# Altium integrated library Analog Devices Data Converters Analog-to-Digital Converters.IntLib: 2400 symbols (part 192 of 338)
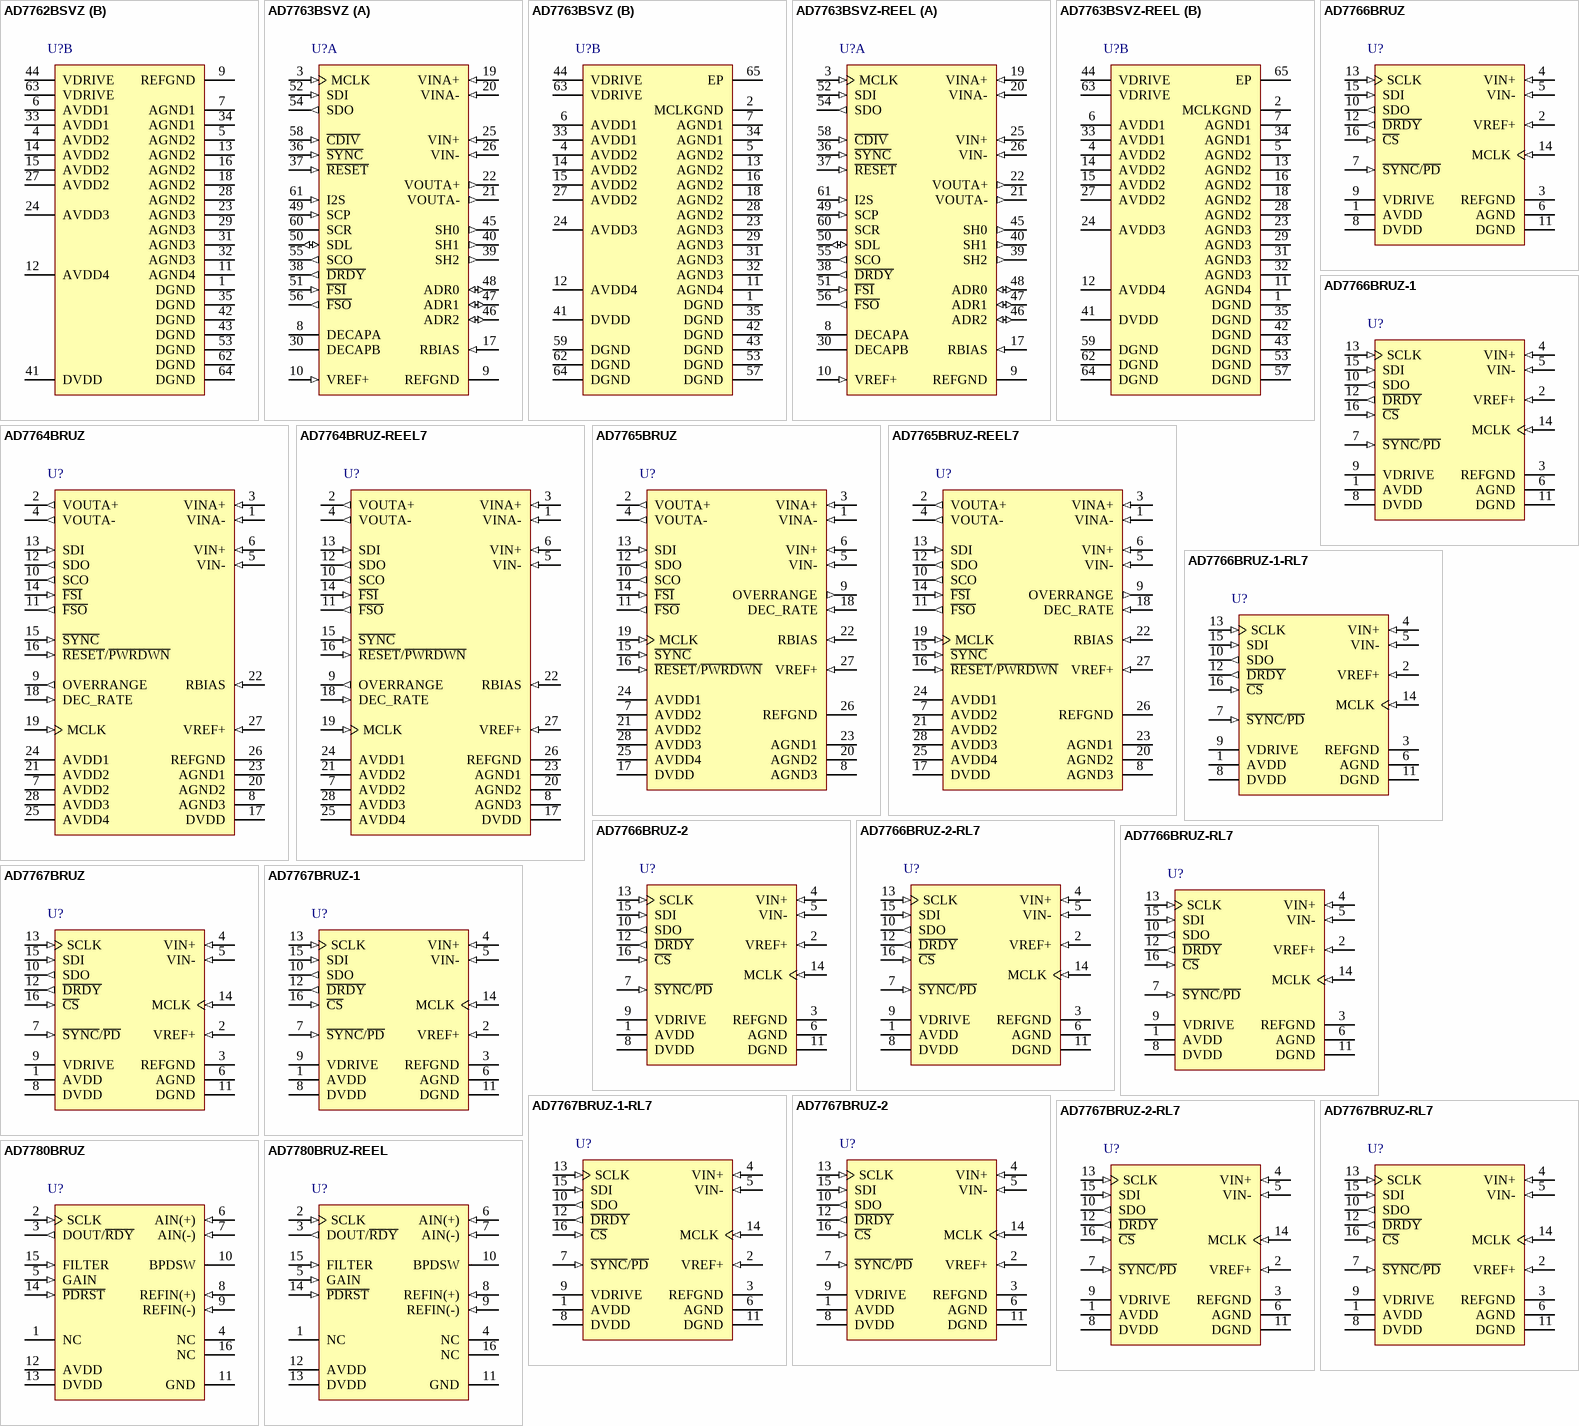
[diagram p361: symbols AD7762BSVZ to AD7780BRUZ-REEL]

## AD7763BSVZ
designator U?
Single 24-Bit Sigma-Delta Analog-to-Digital Converter with I2S, Serial Interface and On-Chip Buffers, 625KSPS, -40 to +85 degC, SV-64-2, Pb-Free, Tray; Part Number: AD7763; Manufacturer: Analog Devices; Resolution (Bits): 24; Channels: 1; Throughput Rate (SPS): 625K; DatasheetVersion: Rev.A; PackageVersion: 2004; PackageReference: SV-64-2; PackageDescription: 64-Lead Thin Quad Flat Package, Exposed Pad [TQFP_EP]; Interface: I2S, Ser; RoHS: Y; Packing: Tray; Mounting Technology: Surface Mount; Code_JEDEC: MS-026-ACD-HD; ComponentLink1Description: Manufacturer URL; ComponentLink1URL: http://www.analog.com/en/index.html; ComponentLink2Description: Datasheet; ComponentLink2URL: http://www.analog.com/static/imported-files/data_sheets/AD7763.pdf; ComponentLink3Description: Package Specification; ComponentLink3URL: http://www.analog.com/static/imported-files/packages/PKG_PDF/TQFP_ED(SV)/SV_64_2.pdf; ComponentLink4Description: Product URL; ComponentLink4URL: http://www.analog.com/en/analog-to-digital-converters/ad-converters/ad7763/products/product.html
footprint SV-64-2_N (Thin QFP, 64-Leads, Body 10x10mm, Pitch 0.5mm, Thermal Pad 6.0x6.0mm, IPC Medium Density)
footprint SV-64-2_L (Thin QFP, 64-Leads, Body 10x10mm, Pitch 0.5mm, Thermal Pad 6.0x6.0mm, IPC High Density)
footprint SV-64-2_M (Thin QFP, 64-Leads, Body 10x10mm, Pitch 0.5mm, Thermal Pad 6.0x6.0mm, IPC Low Density)
part A pins: 3 MCLK (in) "Master Clock Input. A low jitter digital clock must be applied to this pin. The output data rate depends on the frequency of this clock. See the Clocking the AD7763 section.", 8 DECAPA "Decoupling Pin. A 100 nF capacitor must be inserted between this pin and AGND1.", 9 REFGND (power) "Reference Ground. Ground connection for the reference voltage", 10 VREF+ (in) "Reference Input. The input range of this pin is determined by the reference buffer  supply voltage (AVDD4). See the Reference Voltage Filtering section for more details.", 17 RBIAS (in) "Bias Current Setting. A resistor must be inserted between this pin and AGND.  See the Bias Resistor Selection section", 19 VINA+ (in) "Positive Input to Differential Amplifier", 20 VINA- (in) "Negative Input to Differential Amplifier", 21 VOUTA- (out) "Negative Output from Differential Amplifier", 22 VOUTA+ (out) "Positive Output from Differential Amplifier.", 25 VIN+ (in) "Positive Input to the Modulator", 26 VIN- (in) "Negative Input to the Modulator.", 30 DECAPB "Decoupling Pin. A 33 pF capacitor must be inserted between this pin and AGND3.", 36 ~{SYNC} (in) "Synchronization Input. A falling edge on this pin resets the internal filter. This can be used  to synchronize multiple devices in a system.", 37 ~{RESET} (in) "A falling edge on this pin resets all internal digital circuitry. Holding this pin low keeps the AD7763 in a reset state.", 38 ~{DRDY} (out) "Data Ready Output. Each time new conversion data is available, an active low pulse 1/2  ICLK period wide, is produced on this pin. See the AD7763 Interface section.", 39 SH2 (out) "Share Pins 2:0. For multiple AD7763 devices sharing a common serial bus. Each device is wired with the binary value that represents the number of devices sharing the serial bus. SH2 is the  MSB. See the Sharing the Serial (See Datasheet)", 40 SH1 (out) "Share Pins 2:0. For multiple AD7763 devices sharing a common serial bus. Each device is wired with the binary value that represents the number of devices sharing the serial bus. SH2 is the  MSB. See the Sharing the Serial (See Datasheet)", 45 SH0 (out) "Share Pins 2:0. For multiple AD7763 devices sharing a common serial bus. Each device is wired with the binary value that represents the number of devices sharing the serial bus. SH2 is the  MSB. See the Sharing the Serial (See Datasheet)", 46 ADR2 (io) "Address 2:0. Allows multiple AD7763 devices to share a common serial bus. Each device must be programmed with an individual address using these three pins. See the Sharing the Serial Bus section.", 47 ADR1 (io) "Address 2:0. Allows multiple AD7763 devices to share a common serial bus. Each device must be programmed with an individual address using these three pins. See the Sharing the Serial Bus section.", 48 ADR0 (io) "Address 2:0. Allows multiple AD7763 devices to share a common serial bus. Each device must be programmed with an individual address using these three pins. See the Sharing the Serial Bus section.", 49 SCP (in) "Serial Clock Polarity. Determines on which edge of SCO the data bits are clocked out and on which edge they are valid. All timing diagrams are shown with SCP = 0, and all SCO edges shown should be inverted for SCP = 1.", 50 SDL (io) "Serial Data Latch. A pulse is output on this pin after every 16 data bits. The pulse is one SCO period wide and can be used in conjunction with F\S\O\ as an alternative framing method for serial transfers requiring a framing (See Datasheet)", 51 ~{FSI} (in) "Frame Sync In. The status of this pin is checked on the falling edge of SCO. If this pin is low, then the first data bit is latched in on the next SCO falling edge when SCP = 0 or on the rising edge of SCO if SCP = 1.", 52 SDI (in) "Serial Data In. The first data bit (MSB) must be valid on the next SCO falling edge when SCP = 0  (or SCO rising edge SCP = 1) after the F\S\I\ event has been latched. Each write requires 32 bits: the ALL bit, 3 address (See Datasheet)", 54 SDO (out) "Serial Data Out. Address, status, and data bits are clocked out on this line during each serial transfer.if SCP = 0, each bit is clocked out on an SCO rising edge and is valid on the falling edge. When the I2S  pin is set to (See Datasheet)", 55 SCO (out) "Serial Clock Out. This clock signal is derived from the internal ICLK signal. The frequency of SCO is equal to either ICLK or ICLK/2, depending on the state of the CDIV and SCR pins When the I2S  pin is logic high, this pin (See Datasheet)", 56 ~{FSO} (out) "Frame Sync Out. This signal frames the serial data output and is 32 SCO periods wide. The exception to the framing behavior of F\S\O\ occurs in decimate x 32 mode, where, for certain combinations of C\D\I\V\ and SCR, the (See Datasheet)", 58 ~{CDIV} (in) "Clock Divider. This pin is used to select the ratio of MCLK to ICLK. See the AD7763 Interface section.", 60 SCR "Serial Clock Rate. This pin and the C\D\I\V\ pin program the SCO frequency (see Table 7).", 61 I2S (in) "I2S Select. A Logic 1 on this pin changes the serial data-out mode from SPI to I2S .The SDO pin outputs as the SD signal, the SCO pin outputs the SCK signal, and the F\S\O\ pin outputs the WS signal. When writing to the (See Datasheet)"
part B pins: 1 DGND (power) "Ground Reference for Digital Circuitry.", 2 MCLKGND (power) "Master Clock Ground Sensing Pin.", 4 AVDD2 (power) "Power Supply, 5 V. These pins should be decoupled to AGND2 with 100 nF capacitors on each of Pin 4, Pin 14, and Pin 15. Pin 27 should be connected to Pin 14 via an 8.2 nH inductor.", 5 AGND2 (power) "Power Supply Ground for Analog Circuitry Powered by AVDD2", 6 AVDD1 (power) "Power Supply for Modulator, 2.5 V. These pins should be decoupled to AGND1 with 100 nF and  10 uF capacitors on each pin.", 7 AGND1 (power) "Power Supply Ground for Analog Circuitry Powered by AVDD1.", 11 AGND4 (power) "Power Supply Ground for Analog Circuitry Powered by AVDD4.", 12 AVDD4 (power) "Power Supply for Reference Buffer, 3.3 V to 5 V. This pin should be decoupled to AGND4  with a 10 nF capacitor in series with a 10 ohm resistor", 13 AGND2 (power) "Power Supply Ground for Analog Circuitry Powered by AVDD2", 14 AVDD2 (power) "Power Supply, 5 V. These pins should be decoupled to AGND2 with 100 nF capacitors on each of Pin 4, Pin 14, and Pin 15. Pin 27 should be connected to Pin 14 via an 8.2 nH inductor.", 15 AVDD2 (power) "Power Supply, 5 V. These pins should be decoupled to AGND2 with 100 nF capacitors on each of Pin 4, Pin 14, and Pin 15. Pin 27 should be connected to Pin 14 via an 8.2 nH inductor.", 16 AGND2 (power) "Power Supply Ground for Analog Circuitry Powered by AVDD2", 18 AGND2 (power) "Power Supply Ground for Analog Circuitry Powered by AVDD2", 23 AGND3 (power) "Power Supply Ground for Analog Circuitry Powered by AVDD3.", 24 AVDD3 (power) "Power Supply for Differential Amplifier, 3.3 V to 5 V. This pin should be decoupled to AGND3  with a 100 nF capacitor.", 27 AVDD2 (power) "Power Supply, 5 V. These pins should be decoupled to AGND2 with 100 nF capacitors on each of Pin 4, Pin 14, and Pin 15. Pin 27 should be connected to Pin 14 via an 8.2 nH inductor.", 28 AGND2 (power) "Power Supply Ground for Analog Circuitry Powered by AVDD2", 29 AGND3 (power) "Power Supply Ground for Analog Circuitry Powered by AVDD3.", 31 AGND3 (power) "Power Supply Ground for Analog Circuitry Powered by AVDD3.", 32 AGND3 (power) "Power Supply Ground for Analog Circuitry Powered by AVDD3.", 33 AVDD1 (power) "Power Supply for Modulator, 2.5 V. These pins should be decoupled to AGND1 with 100 nF and  10 uF capacitors on each pin.", 34 AGND1 (power) "Power Supply Ground for Analog Circuitry Powered by AVDD1.", 35 DGND (power) "Ground Reference for Digital Circuitry.", 41 DVDD (power) "Power Supply for Digital Circuitry and FIR Filter, 2.5 V. This pin should be decoupled to DGND  with a 100 nF capacitor.", 42 DGND (power) "Ground Reference for Digital Circuitry.", 43 DGND (power) "Ground Reference for Digital Circuitry.", 44 VDRIVE (power) "Logic Power Supply Input, 1.8 V to 2.5 V. The voltage supplied at these pins determines the operating voltage of the logic interface. These pins must be connected together and tied to the same supply. Each pin should also be (See Datasheet)", 53 DGND (power) "Ground Reference for Digital Circuitry.", 57 DGND (power) "Ground Reference for Digital Circuitry.", 59 DGND (power) "Ground Reference for Digital Circuitry.", 62 DGND (power) "Ground Reference for Digital Circuitry.", 63 VDRIVE (power) "Logic Power Supply Input, 1.8 V to 2.5 V. The voltage supplied at these pins determines the operating voltage of the logic interface. These pins must be connected together and tied to the same supply. Each pin should also be (See Datasheet)", 64 DGND (power) "Ground Reference for Digital Circuitry.", 65 EP "For proper connection of the exposed pad, refer to the pin configuration and function descriptions section of this  data sheet"